# Altium schematic symbol library STM32F302K8U6.Schlib: 1 symbol
Pins are listed as number, name and electrical type; pins without a type are passive.

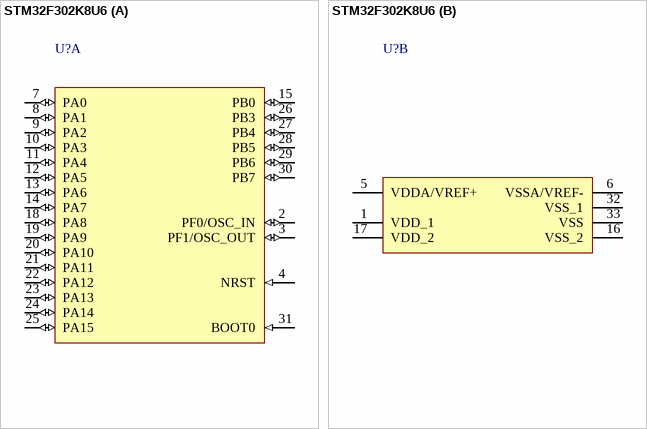
[diagram p0: symbol STM32F302K8U6]

## STM32F302K8U6
designator U?
ARM Cortex-M4 STM32F3 Microcontroller IC 32-Bit 72MHz 64KB (64K x 8) FLASH 32-UFQFPN (5x5)
part A pins: 2 PF0/OSC_IN (io), 3 PF1/OSC_OUT (io), 4 NRST (in), 7 PA0 (io), 8 PA1 (io), 9 PA2 (io), 10 PA3 (io), 11 PA4 (io), 12 PA5 (io), 13 PA6 (io), 14 PA7 (io), 15 PB0 (io), 18 PA8 (io), 19 PA9 (io), 20 PA10 (io), 21 PA11 (io), 22 PA12 (io), 23 PA13 (io), 24 PA14 (io), 25 PA15 (io), 26 PB3 (io), 27 PB4 (io), 28 PB5 (io), 29 PB6 (io), 30 PB7 (io), 31 BOOT0 (in)
part B pins: 1 VDD_1 (power), 5 VDDA/VREF+ (power), 6 VSSA/VREF- (power), 16 VSS_2 (power), 17 VDD_2 (power), 32 VSS_1 (power), 33 VSS (power)